# Altium footprint library Zilog.PcbLib: 2 footprints
Each footprint in its own frame and in the unit in brackets; x right, y up, seen from the top. Pads: shape width x height; smd on the part's side, far side on the other; paste and mask are expansions set on the pad; w line width, h text height; cw(c..) or ccw(c..) is an arc to the next point about the centre after c.
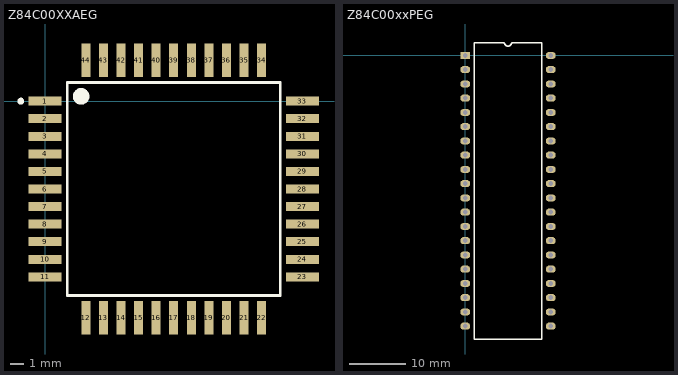
[diagram p0: the footprints below, top view; thin cyan lines are the x and y axes]

## Z84C00XXAEG [mm] "Z80 - CPU"
pads (44):
  rect 2.4x0.65 smd: 1(0,0) 2(0,-1.27) 3(0,-2.54) 4(0,-3.81) 5(0,-5.08) 6(0,-6.35) 7(0,-7.62) 8(0,-8.89) 9(0,-10.16) 10(0,-11.43) 11(0,-12.7) 23(18.6,-12.7) 24(18.6,-11.43) 25(18.6,-10.16) 26(18.6,-8.89) 27(18.6,-7.62) 28(18.6,-6.35) 29(18.6,-5.08) 30(18.6,-3.81) 31(18.6,-2.54) 32(18.6,-1.27) 33(18.6,0)
  rect 0.65x2.4 smd: 12(2.95,-15.65) 13(4.22,-15.65) 14(5.49,-15.65) 15(6.76,-15.65) 16(8.03,-15.65) 17(9.3,-15.65) 18(10.57,-15.65) 19(11.84,-15.65) 20(13.11,-15.65) 21(14.38,-15.65) 22(15.65,-15.65) 34(15.65,2.95) 35(14.38,2.95) 36(13.11,2.95) 37(11.84,2.95) 38(10.57,2.95) 39(9.3,2.95) 40(8.03,2.95) 41(6.76,2.95) 42(5.49,2.95) 43(4.22,2.95) 44(2.95,2.95)
Top Overlay:
  circle w0.6: c2.6,0.35 r0.3
  circle w0.25: c-1.76,0 r0.125
  lines w0.2: 1.6,-14.05 1.6,1.35 17,1.35 17,-14.05 1.6,-14.05

## Z84C00xxPEG [mil] "Z80 - CPU"
pads (40):
  rect 70x50 hole 35: 1(0,0)
  oval 70x50 hole 35: 2(0,-100) 3(0,-200) 4(0,-300) 5(0,-400) 6(0,-500) 7(0,-600) 8(0,-700) 9(0,-800) 10(0,-900) 11(0,-1000) 12(0,-1100) 13(0,-1200) 14(0,-1300) 15(0,-1400) 16(0,-1500) 17(0,-1600) 18(0,-1700) 19(0,-1800) 20(0,-1900) 21(600,-1900) 22(600,-1800) 23(600,-1700) 24(600,-1600) 25(600,-1500) 26(600,-1400) 27(600,-1300) 28(600,-1200) 29(600,-1100) 30(600,-1000) 31(600,-900) 32(600,-800) 33(600,-700) 34(600,-600) 35(600,-500) 36(600,-400) 37(600,-300) 38(600,-200) 39(600,-100) 40(600,0)
Top Overlay:
  lines w10: 63.78,-1990 63.78,90 275,90 ccw(c300,90) 325,90 536.22,90 536.22,-1990 63.78,-1990
3D body: height 0, standoff -125, extent 595,-7.5 605,7.5
3D body: height 50, standoff 0, extent 595,-25 605,25
3D body: height 50, standoff 40, extent 575,-25 595,25
3D body: height 0, standoff -125, extent 595,-107.5 605,-92.5
3D body: height 50, standoff 0, extent 595,-125 605,-75
3D body: height 50, standoff 40, extent 575,-125 595,-75
3D body: height 0, standoff -125, extent 595,-207.5 605,-192.5
3D body: height 50, standoff 0, extent 595,-225 605,-175
3D body: height 50, standoff 40, extent 575,-225 595,-175
3D body: height 0, standoff -125, extent 595,-307.5 605,-292.5
3D body: height 50, standoff 0, extent 595,-325 605,-275
3D body: height 50, standoff 40, extent 575,-325 595,-275
3D body: height 0, standoff -125, extent 595,-407.5 605,-392.5
3D body: height 50, standoff 0, extent 595,-425 605,-375
3D body: height 50, standoff 40, extent 575,-425 595,-375
3D body: height 0, standoff -125, extent 595,-507.5 605,-492.5
3D body: height 50, standoff 0, extent 595,-525 605,-475
3D body: height 50, standoff 40, extent 575,-525 595,-475
3D body: height 0, standoff -125, extent 595,-607.5 605,-592.5
3D body: height 50, standoff 0, extent 595,-625 605,-575
3D body: height 50, standoff 40, extent 575,-625 595,-575
3D body: height 0, standoff -125, extent 595,-707.5 605,-692.5
3D body: height 50, standoff 0, extent 595,-725 605,-675
3D body: height 50, standoff 40, extent 575,-725 595,-675
3D body: height 0, standoff -125, extent 595,-807.5 605,-792.5
3D body: height 50, standoff 0, extent 595,-825 605,-775
3D body: height 50, standoff 40, extent 575,-825 595,-775
3D body: height 0, standoff -125, extent 595,-907.5 605,-892.5
3D body: height 50, standoff 0, extent 595,-925 605,-875
3D body: height 50, standoff 40, extent 575,-925 595,-875
3D body: height 0, standoff -125, extent 595,-1007.5 605,-992.5
3D body: height 50, standoff 0, extent 595,-1025 605,-975
3D body: height 50, standoff 40, extent 575,-1025 595,-975
3D body: height 0, standoff -125, extent 595,-1107.5 605,-1092.5
3D body: height 50, standoff 0, extent 595,-1125 605,-1075
3D body: height 50, standoff 40, extent 575,-1125 595,-1075
3D body: height 0, standoff -125, extent 595,-1207.5 605,-1192.5
3D body: height 50, standoff 0, extent 595,-1225 605,-1175
3D body: height 50, standoff 40, extent 575,-1225 595,-1175
3D body: height 0, standoff -125, extent 595,-1307.5 605,-1292.5
3D body: height 50, standoff 0, extent 595,-1325 605,-1275
3D body: height 50, standoff 40, extent 575,-1325 595,-1275
3D body: height 0, standoff -125, extent 595,-1407.5 605,-1392.5
3D body: height 50, standoff 0, extent 595,-1425 605,-1375
3D body: height 50, standoff 40, extent 575,-1425 595,-1375
3D body: height 0, standoff -125, extent 595,-1507.5 605,-1492.5
3D body: height 50, standoff 0, extent 595,-1525 605,-1475
3D body: height 50, standoff 40, extent 575,-1525 595,-1475
3D body: height 0, standoff -125, extent 595,-1607.5 605,-1592.5
3D body: height 50, standoff 0, extent 595,-1625 605,-1575
3D body: height 50, standoff 40, extent 575,-1625 595,-1575
3D body: height 0, standoff -125, extent 595,-1707.5 605,-1692.5
3D body: height 50, standoff 0, extent 595,-1725 605,-1675
3D body: height 50, standoff 40, extent 575,-1725 595,-1675
3D body: height 0, standoff -125, extent 595,-1807.5 605,-1792.5
3D body: height 50, standoff 0, extent 595,-1825 605,-1775
3D body: height 50, standoff 40, extent 575,-1825 595,-1775
3D body: height 0, standoff -125, extent 595,-1907.5 605,-1892.5
3D body: height 50, standoff 0, extent 595,-1925 605,-1875
3D body: height 50, standoff 40, extent 575,-1925 595,-1875
3D body: height 0, standoff -125, extent -5,-1907.5 5,-1892.5
3D body: height 50, standoff 0, extent -5,-1925 5,-1875
3D body: height 50, standoff 40, extent 5,-1925 25,-1875
3D body: height 0, standoff -125, extent -5,-1807.5 5,-1792.5
3D body: height 50, standoff 0, extent -5,-1825 5,-1775
3D body: height 50, standoff 40, extent 5,-1825 25,-1775
3D body: height 0, standoff -125, extent -5,-1707.5 5,-1692.5
3D body: height 50, standoff 0, extent -5,-1725 5,-1675
3D body: height 50, standoff 40, extent 5,-1725 25,-1675
3D body: height 0, standoff -125, extent -5,-1607.5 5,-1592.5
3D body: height 50, standoff 0, extent -5,-1625 5,-1575
3D body: height 50, standoff 40, extent 5,-1625 25,-1575
3D body: height 0, standoff -125, extent -5,-1507.5 5,-1492.5
3D body: height 50, standoff 0, extent -5,-1525 5,-1475
3D body: height 50, standoff 40, extent 5,-1525 25,-1475
3D body: height 0, standoff -125, extent -5,-1407.5 5,-1392.5
3D body: height 50, standoff 0, extent -5,-1425 5,-1375
3D body: height 50, standoff 40, extent 5,-1425 25,-1375
3D body: height 0, standoff -125, extent -5,-1307.5 5,-1292.5
3D body: height 50, standoff 0, extent -5,-1325 5,-1275
3D body: height 50, standoff 40, extent 5,-1325 25,-1275
3D body: height 0, standoff -125, extent -5,-1207.5 5,-1192.5
3D body: height 50, standoff 0, extent -5,-1225 5,-1175
3D body: height 50, standoff 40, extent 5,-1225 25,-1175
3D body: height 0, standoff -125, extent -5,-1107.5 5,-1092.5
3D body: height 50, standoff 0, extent -5,-1125 5,-1075
3D body: height 50, standoff 40, extent 5,-1125 25,-1075
3D body: height 0, standoff -125, extent -5,-1007.5 5,-992.5
3D body: height 50, standoff 0, extent -5,-1025 5,-975
3D body: height 50, standoff 40, extent 5,-1025 25,-975
3D body: height 0, standoff -125, extent -5,-907.5 5,-892.5
3D body: height 50, standoff 0, extent -5,-925 5,-875
3D body: height 50, standoff 40, extent 5,-925 25,-875
3D body: height 0, standoff -125, extent -5,-807.5 5,-792.5
3D body: height 50, standoff 0, extent -5,-825 5,-775
3D body: height 50, standoff 40, extent 5,-825 25,-775
3D body: height 0, standoff -125, extent -5,-707.5 5,-692.5
3D body: height 50, standoff 0, extent -5,-725 5,-675
3D body: height 50, standoff 40, extent 5,-725 25,-675
3D body: height 0, standoff -125, extent -5,-607.5 5,-592.5
3D body: height 50, standoff 0, extent -5,-625 5,-575
3D body: height 50, standoff 40, extent 5,-625 25,-575
3D body: height 0, standoff -125, extent -5,-507.5 5,-492.5
3D body: height 50, standoff 0, extent -5,-525 5,-475
3D body: height 50, standoff 40, extent 5,-525 25,-475
3D body: height 0, standoff -125, extent -5,-407.5 5,-392.5
3D body: height 50, standoff 0, extent -5,-425 5,-375
3D body: height 50, standoff 40, extent 5,-425 25,-375
3D body: height 0, standoff -125, extent -5,-307.5 5,-292.5
3D body: height 50, standoff 0, extent -5,-325 5,-275
3D body: height 50, standoff 40, extent 5,-325 25,-275
3D body: height 0, standoff -125, extent -5,-207.5 5,-192.5
3D body: height 50, standoff 0, extent -5,-225 5,-175
3D body: height 50, standoff 40, extent 5,-225 25,-175
3D body: height 0, standoff -125, extent -5,-107.5 5,-92.5
3D body: height 50, standoff 0, extent -5,-125 5,-75
3D body: height 50, standoff 40, extent 5,-125 25,-75
3D body: height 0, standoff -125, extent -5,-7.5 5,7.5
3D body: height 50, standoff 0, extent -5,-25 5,25
3D body: height 50, standoff 40, extent 5,-25 25,25
3D body: height 100, standoff 15, extent 25,-1990 575,90.09